# EAGLE library part 74AHC14PW,112 (library ruark2)
IC HEX SCHMITT-TRIG INV 14TSSOP
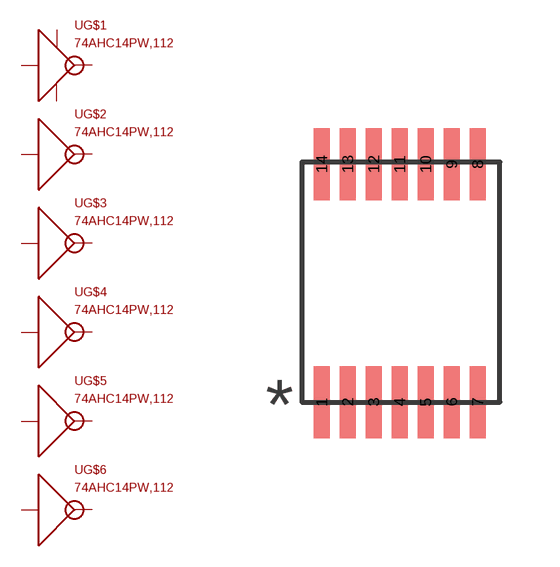
[diagram p28: symbol with the pads of TSSOP14; footprint TSSOP14]

Designator prefix U; gates G$1=NOT_PWRD G$2=NOT G$3=NOT G$4=NOT G$5=NOT G$6=NOT

## 74AHC14PW,112 (PARTNO: 296-1086-1-ND)  [TSSOP14]
1  G$1:IN
2  G$1:OUT
3  G$2:IN
4  G$2:OUT
5  G$3:IN
6  G$3:OUT
7  G$1:-
8  G$4:OUT
9  G$4:IN
10  G$5:OUT
11  G$5:IN
12  G$6:OUT
13  G$6:IN
14  G$1:+

## Footprint TSSOP14 (pad centres in mm)
smd 0.4 x 1.8: 1 -2.54,-2.54; 2 -1.89,-2.54; 3 -1.24,-2.54; 4 -0.59,-2.54; 5 0.06,-2.54; 6 0.71,-2.54; 7 1.36,-2.54; 8 1.36,3.41; 9 0.71,3.41; 10 0.06,3.41; 11 -0.59,3.41; 12 -1.24,3.41; 13 -1.89,3.41; 14 -2.54,3.41